# Altium schematic symbol library test.SchLib: 309 symbols (part 7 of 9)
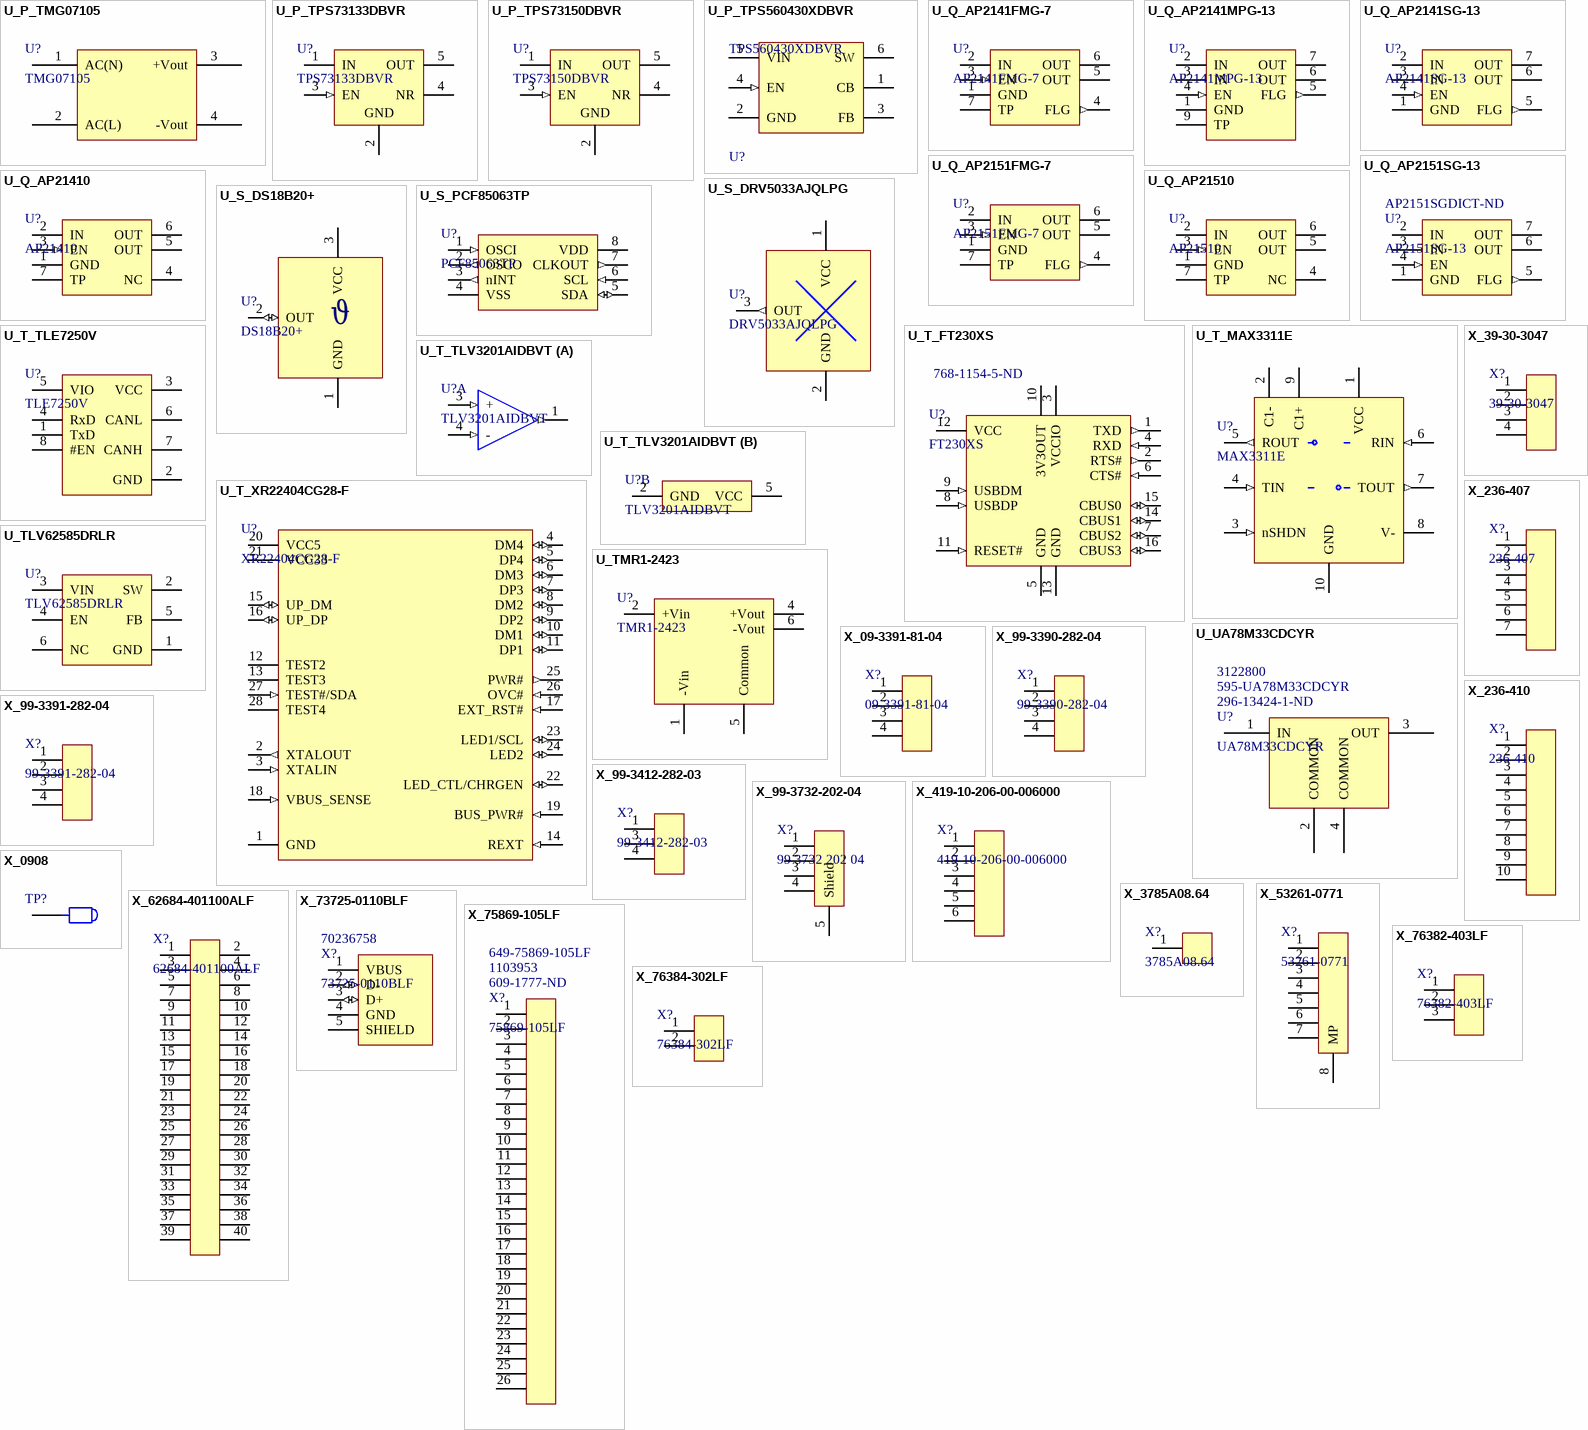
[diagram p14: symbols U_P_TMG07105 to X_76384-302LF]

## U_Q_AP2141SG-13
designator U?, comment AP2141SG-13
0.5A SINGLE CHANNEL CURRENT-LIMITED POWERSWITCH SOIC8; Manufacturer: Diodes; Number of Outputs: 1; Current Rating: 800mA; Max Supply Voltage: 5.5V; Min Supply Voltage: 2.7V; Interface: On/Off; Max Output Current: 500mA; On-State Resistance: 95mR; Fault Protection: Over Temperature,Reverse Current; Output Configuration: High Side; ComponentLink1URL: https://datasheet.ciiva.com/15108/getdatasheetpartid-661768-15108858.pdf; ComponentLink1Description: https://datasheet.ciiva.com/15108/getdatasheetpartid-661768-15108858.pdf; ComponentLink2URL: https://datasheet.ciiva.com/26882/ap2141fmg-7-26882490.pdf; ComponentLink2Description: https://datasheet.ciiva.com/26882/ap2141fmg-7-26882490.pdf; ComponentLink3URL: https://datasheet.ciiva.com/1962/ap2141-51-1962188.pdf; ComponentLink3Description: https://datasheet.ciiva.com/1962/ap2141-51-1962188.pdf; ComponentLink4URL: https://datasheet.ciiva.com/1962/ap2141-51-1962189.pdf; ComponentLink4Description: https://datasheet.ciiva.com/1962/ap2141-51-1962189.pdf; ComponentLink5URL: https://datasheet.ciiva.com/1962/ap2141-51-1962190.pdf; ComponentLink5Description: https://datasheet.ciiva.com/1962/ap2141-51-1962190.pdf; Supplier 1: Digi-Key; Supplier Part Number 1: AP2141SGDICT-ND; Manufacturer Part Number: AP2141SG-13; RoHS: Yes; Stock 1: 5779; Pricing 1: 1 = 0.70000, 10 = 0.61200, 100 = 0.46910, 500 = 0.37080, 1000 = 0.29664 (USD); Mount: Surface Mount; Case/Package: SOP; Number of Pins: 8; Weight: 0.030018oz; Min Operating Temperature: -40°C; Max Operating Temperature: 85°C; Package Quantity: 2500; Packaging: Tape and Reel; Voltage: 5.5V; Current: 500mA; Length: 5.3mm; Height: 1.5mm; Width: 4.1mm; Radiation Hardening: No; REACH SVHC: No SVHC; Lead Free: Lead Free; ComponentLink6URL: http://www.farnell.com/datasheets/608802.pdf?src-supplier=Farnell; ComponentLink6Description: http://www.farnell.com/datasheets/608802.pdf?src-supplier=Farnell; ComponentLink7URL: http://www.farnell.com/datasheets/608802.pdf?src-supplier=Element14; ComponentLink7Description: http://www.farnell.com/datasheets/608802.pdf?src-supplier=Element14; ComponentLink8URL: http://www.diodes.com/datasheets/AP2141_51.pdf?src-supplier=Avnet; ComponentLink8Description: http://www.diodes.com/datasheets/AP2141_51.pdf?src-supplier=Avnet; ComponentLink9URL: https://www.verical.com/server-webapp/html/getDatasheet?partID=670762&src-supplier=Verical; ComponentLink9Description: https://www.verical.com/server-webapp/html/getDatasheet?partID=670762&src-supplier=Verical; ComponentLink10URL: http://www.farnell.com/datasheets/2238439.pdf?src-supplier=Element14; ComponentLink10Description: http://www.farnell.com/datasheets/2238439.pdf?src-supplier=Element14; ComponentLink11URL: http://www.diodes.com/datasheets/AP2141_51.pdf?src-supplier=Future+Electronics; ComponentLink11Description: http://www.diodes.com/datasheets/AP2141_51.pdf?src-supplier=Future+Electronics; ComponentLink12URL: https://www.diodes.com/assets/Datasheets/AP2141-51.pdf?src-supplier=Digi-Key; ComponentLink12Description: https://www.diodes.com/assets/Datasheets/AP2141-51.pdf?src-supplier=Digi-Key
footprint SO8 (SOIC8, SO8, PG-DSO8-44, R-PDSO8-G8)
pins: 1 GND (power), 2 IN (power), 3 IN (power), 4 EN (in), 5 FLG (out), 6 OUT (power), 7 OUT (power)

## U_Q_AP2151FMG-7
designator U?, comment AP2151FMG-7
0.5A SINGLE CHANNEL CURRENT-LIMITED POWERSWITCH DFN EP T/R; Manufacturer: Diodes; Number of Outputs: 1; Max Supply Voltage: 5.5V; Min Supply Voltage: 2.7V; Interface: On/Off; Max Output Current: 500mA; On-State Resistance: 120mR; Fault Protection: Over Temperature,Reverse Current; Output Configuration: High Side; ComponentLink1URL: https://datasheet.ciiva.com/15108/getdatasheetpartid-661768-15108858.pdf; ComponentLink1Description: https://datasheet.ciiva.com/15108/getdatasheetpartid-661768-15108858.pdf; ComponentLink2URL: https://datasheet.ciiva.com/26882/ap2141fmg-7-26882490.pdf; ComponentLink2Description: https://datasheet.ciiva.com/26882/ap2141fmg-7-26882490.pdf; ComponentLink3URL: https://datasheet.ciiva.com/1962/ap2141-51-1962188.pdf; ComponentLink3Description: https://datasheet.ciiva.com/1962/ap2141-51-1962188.pdf; ComponentLink4URL: https://datasheet.ciiva.com/1962/ap2141-51-1962189.pdf; ComponentLink4Description: https://datasheet.ciiva.com/1962/ap2141-51-1962189.pdf; ComponentLink5URL: https://datasheet.ciiva.com/1962/ap2141-51-1962190.pdf; ComponentLink5Description: https://datasheet.ciiva.com/1962/ap2141-51-1962190.pdf; Supplier 1: Digi-Key; Supplier Part Number 1: AP2151FMG-7DIDKR-ND; Manufacturer Part Number: AP2151FMG-7; RoHS: Yes; Stock 1: 946; Pricing 1: 1 = 0.59000, 10 = 0.50200, 100 = 0.37490, 500 = 0.29458, 1000 = 0.22763 (USD); Mount: Surface Mount; Case/Package: SOT-26; Number of Pins: 6; Min Operating Temperature: -40°C; Max Operating Temperature: 85°C; Packaging: Tape and Reel; Package Quantity: 3000; Voltage: 5.5V; Current: 500mA; Length: 1.88mm; Height: 0.56mm; Width: 2.075mm; Radiation Hardening: No; Lead Free: Lead Free; ComponentLink6URL: https://www.verical.com/server-webapp/html/getDatasheet?partID=697404&src-supplier=Verical; ComponentLink6Description: https://www.verical.com/server-webapp/html/getDatasheet?partID=697404&src-supplier=Verical
footprint U-DFN2018-6
pins: 1 GND (power), 2 IN (power), 3 EN (in), 4 FLG (out), 5 OUT (power), 6 OUT (power), 7 TP (power)

## U_Q_AP2151SG-13
designator U?, comment AP2151SG-13  Supplier Part Number 1: AP2151SGDICT-ND
0.5A SINGLE CHANNEL CURRENT-LIMITED POWERSWITCH SOIC8; Manufacturer: Diodes; Manufacturer Part Number: AP2141FMG-7; Number of Outputs: 1; Current Rating: 800mA; Max Supply Voltage: 5.5V; Min Supply Voltage: 2.7V; Interface: On/Off; Max Output Current: 500mA; On-State Resistance: 115MR; Fault Protection: Over Temperature,Reverse Current; Output Configuration: High Side; ComponentLink1URL: https://datasheet.ciiva.com/15108/getdatasheetpartid-661768-15108858.pdf; ComponentLink1Description: https://datasheet.ciiva.com/15108/getdatasheetpartid-661768-15108858.pdf; ComponentLink2URL: https://datasheet.ciiva.com/26882/ap2141fmg-7-26882490.pdf; ComponentLink2Description: https://datasheet.ciiva.com/26882/ap2141fmg-7-26882490.pdf; ComponentLink3URL: https://datasheet.ciiva.com/1962/ap2141-51-1962188.pdf; ComponentLink3Description: https://datasheet.ciiva.com/1962/ap2141-51-1962188.pdf; ComponentLink4URL: https://datasheet.ciiva.com/1962/ap2141-51-1962189.pdf; ComponentLink4Description: https://datasheet.ciiva.com/1962/ap2141-51-1962189.pdf; ComponentLink5URL: https://datasheet.ciiva.com/1962/ap2141-51-1962190.pdf; ComponentLink5Description: https://datasheet.ciiva.com/1962/ap2141-51-1962190.pdf; RoHS: Yes; Stock 2: 2151; Pricing 2: 1 = 0.77000, 10 = 0.68000, 100 = 0.52120, 500 = 0.41200, 1000 = 0.32960 (USD); Mount: Surface Mount; Case/Package: SOP; Number of Pins: 8; Weight: 0.030018oz; Min Operating Temperature: -40°C; Max Operating Temperature: 85°C; Packaging: Tape and Reel; Package Quantity: 2500; Voltage: 5.5V; Current: 500mA; Length: 4.95mm; Height: 1.5mm; Width: 3.95mm; Radiation Hardening: No; Lead Free: Lead Free; ComponentLink6URL: https://www.verical.com/server-webapp/html/getDatasheet?partID=661773&src-supplier=Verical; ComponentLink6Description: https://www.verical.com/server-webapp/html/getDatasheet?partID=661773&src-supplier=Verical; ComponentLink7URL: http://www.diodes.com/datasheets/AP2141_51.pdf?src-supplier=Avnet+Europe; ComponentLink7Description: http://www.diodes.com/datasheets/AP2141_51.pdf?src-supplier=Avnet+Europe; ComponentLink8URL: http://datasheet.iiic.cc/diodes/AP2151SG-13.pdf?src-supplier=IIIC; ComponentLink8Description: http://datasheet.iiic.cc/diodes/AP2151SG-13.pdf?src-supplier=IIIC; Supplier 1: Digi-Key
footprint SO8 (SOIC8, SO8, PG-DSO8-44, R-PDSO8-G8)
pins: 1 GND (power), 2 IN (power), 3 IN (power), 4 EN (in), 5 FLG (out), 6 OUT (power), 7 OUT (power)

## U_Q_AP21410
designator U?, comment AP21410
Current Limit SW 1-IN 1-OUT 2.7V to 5.5V 0.2A 6-Pin UDFN T/R; Manufacturer: Diodes; Manufacturer Part Number: AP21410FM-7; Supplier 1: Digi-Key; Supplier Part Number 1: AP21410FM-7DICT-ND; ComponentLink1URL: http://www.mouser.com/ds/2/115/AP21410_21510-740863.pdf; ComponentLink1Description: http://www.mouser.com/ds/2/115/AP21410_21510-740863.pdf; ComponentLink2URL: http://www.diodes.com/_files/datasheets/AP21410_21510.pdf; ComponentLink2Description: http://www.diodes.com/_files/datasheets/AP21410_21510.pdf
footprint U-DFN2018-6
pins: 1 GND (power), 2 IN (power), 3 EN (in), 4 NC, 5 OUT (power), 6 OUT (power), 7 TP (power)

## U_Q_AP21510
designator U?, comment AP21510
IC USB PWR SWITCH 6UDFN; Manufacturer: Diodes; Manufacturer Part Number: AP21510FM-7; Number of Outputs: 1; Interface: On/Off; Max Output Current: 200mA; Fault Protection: Over Temperature,Reverse Current; Output Configuration: High Side; Supplier 1: Digi-Key; RoHS: Yes; Stock 1: 10640; Pricing 1: 1=0,41000, 10=0,35500, 100=0,24610, 500=0,19874, 1000=0,14669 (USD); Mount: Surface Mount; Contact Plating: Tin,Matte; Min Operating Temperature: -40°C; Max Operating Temperature: 85°C; Packaging: Cut Tape; Number of Inputs: 1; ComponentLink1URL: https://media.digikey.com/pdf/Data%20Sheets/Diodes%20PDFs/AP21410_AP21510_NPA.pdf?src-supplier=Digi-Key; ComponentLink1Description: https://media.digikey.com/pdf/Data%20Sheets/Diodes%20PDFs/AP21410_AP21510_NPA.pdf?src-supplier=Digi-Key; ComponentLink2URL: http://www.mouser.com/ds/2/115/AP21410_21510-740863.pdf?src-supplier=Mouser; ComponentLink2Description: http://www.mouser.com/ds/2/115/AP21410_21510-740863.pdf?src-supplier=Mouser; ComponentLink3URL: http://www.diodes.com/_files/datasheets/AP21410_21510.pdf?src-supplier=Avnet; ComponentLink3Description: http://www.diodes.com/_files/datasheets/AP21410_21510.pdf?src-supplier=Avnet; ComponentLink4URL: https://www.diodes.com/assets/Datasheets/AP21410_21510.pdf?src-supplier=Digi-Key; ComponentLink4Description: https://www.diodes.com/assets/Datasheets/AP21410_21510.pdf?src-supplier=Digi-Key; Supplier Part Number 1: AP21510FM-7DICT-ND
footprint U-DFN2018-6
pins: 1 GND (power), 2 IN (power), 3 EN (in), 4 NC, 5 OUT (power), 6 OUT (power), 7 TP (power)

## U_S_DRV5033AJQLPG
designator U?, comment DRV5033AJQLPG
TEXAS INSTRUMENTS         DRV5033AJQLPG            Hall Effect Sensor, Omnipolar, 30 mA, TO-226AA, 3 Pins, 2.5 V, 38 V; Supplier 1: Digi-Key; Supplier Part Number 1: 296-38520-ND; Manufacturer: Texas Instruments; Manufacturer Part Number: DRV5033AJQLPG; Case/Package: TO-226-3; ComponentLink1URL: http://components.arrow.com/part/dataview/72317363S1084610N9193; ComponentLink1Description: http://components.arrow.com/part/dataview/72317363S1084610N9193; ComponentLink2URL: http://www.ti.com/general/docs/lit/getliterature.tsp?genericPartNumber=DRV5033&&fileType=pdf; ComponentLink2Description: http://www.ti.com/general/docs/lit/getliterature.tsp?genericPartNumber=DRV5033&&fileType=pdf; ComponentLink3URL: http://www.ti.com/lit/ds/symlink/drv5023.pdf; ComponentLink3Description: http://www.ti.com/lit/ds/symlink/drv5023.pdf; ComponentLink4URL: http://www.farnell.com/datasheets/2026569.pdf; ComponentLink4Description: http://www.farnell.com/datasheets/2026569.pdf; ComponentLink5URL: http://www.farnell.com/datasheets/2019224.pdf; ComponentLink5Description: http://www.farnell.com/datasheets/2019224.pdf
footprint To-92 - Mirror
pins: 1 VCC, 2 GND, 3 OUT (out)

## U_S_DS18B20+
designator U?, comment DS18B20+
MAXIM INTEGRATED PRODUCTS         DS18B20+.             12bit,  0.5C 1 Wire Digital Thermometer with Programmable Resolution in TO-92-3 Package; Supplier 1: Digi-Key; Supplier Part Number 1: DS18B20+-ND; Manufacturer: Maxim; Manufacturer Part Number: DS18B20+; Case/Package: TO-92; ComponentLink1URL: https://datasheet.ciiva.com/14100/ds18b20-eng-tds-14100018.pdf; ComponentLink1Description: https://datasheet.ciiva.com/14100/ds18b20-eng-tds-14100018.pdf; ComponentLink2URL: https://datasheet.ciiva.com/23809/46379-23809287.pdf; ComponentLink2Description: https://datasheet.ciiva.com/23809/46379-23809287.pdf; ComponentLink3URL: https://datasheet.ciiva.com/19456/865936-19456316.pdf; ComponentLink3Description: https://datasheet.ciiva.com/19456/865936-19456316.pdf; ComponentLink4URL: https://datasheet.ciiva.com/26887/ds18b20-26887123.pdf; ComponentLink4Description: https://datasheet.ciiva.com/26887/ds18b20-26887123.pdf; ComponentLink5URL: https://datasheet.ciiva.com/46354/136-ds18b20-46354613.pdf; ComponentLink5Description: https://datasheet.ciiva.com/46354/136-ds18b20-46354613.pdf; ComponentLink6URL: https://datasheet.ciiva.com/16470/ds18b20-16470492.pdf; ComponentLink6Description: https://datasheet.ciiva.com/16470/ds18b20-16470492.pdf; ComponentLink7URL: https://datasheet.ciiva.com/2003/ds18b20-2003437.pdf; ComponentLink7Description: https://datasheet.ciiva.com/2003/ds18b20-2003437.pdf; ComponentLink8URL: https://datasheet.ciiva.com/3277/ds18b20-3277869.pdf; ComponentLink8Description: https://datasheet.ciiva.com/3277/ds18b20-3277869.pdf; ComponentLink9URL: https://datasheet.ciiva.com/5696/ds18s20-5696782.pdf; ComponentLink9Description: https://datasheet.ciiva.com/5696/ds18s20-5696782.pdf
footprint To-92
pins: 1 GND, 2 OUT (io), 3 VCC
text: ϑ

## U_S_PCF85063TP
designator U?, comment PCF85063TP
Real Time Clock Serial 8-Pin HWSON EP; Manufacturer: NXP Semiconductors; Manufacturer Part Number: PCF85063TP/1Z; Resolution: 12b; Operating Supply Current: 1.5mA; Output Type: Voltage,Digital; Min Supply Voltage: 3V; Max Supply Voltage: 5.5V; Number of Bits: 12; Output Current: 4mA; Nominal Supply Current: 1mA; Sensor Type: Temperature; ComponentLink1URL: https://datasheet.ciiva.com/24017/pcf85063tp-260518-24017188.pdf; ComponentLink1Description: https://datasheet.ciiva.com/24017/pcf85063tp-260518-24017188.pdf; ComponentLink2URL: https://datasheet.ciiva.com/29883/pcf85063tp-29883573.pdf; ComponentLink2Description: https://datasheet.ciiva.com/29883/pcf85063tp-29883573.pdf; Stock 2: 16564; Pricing 2: 1=2.78, 10=2.72 (USD); Mount: Through Hole,PCB; Case/Package: TO-92; Number of Pins: 3; Weight: 0.001lb; Min Operating Temperature: -55°C; Max Operating Temperature: 125°C; Packaging: Rail/Tube; Package Quantity: 10; Interface: Serial; Max Supply Voltage (DC): 5.5V; Min Supply Voltage (DC): 3V; Termination: SMD/SMT; Length: 4.95mm; Height: 4.95mm; Width: 3.94mm; Radiation Hardening: No; Lead Free: Lead Free; REACH SVHC: No SVHC; ComponentLink3URL: https://datasheet.ciiva.com/14100/ds18b20-eng-tds-14100018.pdf; ComponentLink3Description: https://datasheet.ciiva.com/14100/ds18b20-eng-tds-14100018.pdf; ComponentLink4URL: https://datasheet.ciiva.com/23809/46379-23809287.pdf; ComponentLink4Description: https://datasheet.ciiva.com/23809/46379-23809287.pdf; ComponentLink5URL: https://datasheet.ciiva.com/19456/865936-19456316.pdf; ComponentLink5Description: https://datasheet.ciiva.com/19456/865936-19456316.pdf; ComponentLink6URL: https://datasheet.ciiva.com/26887/ds18b20-26887123.pdf; ComponentLink6Description: https://datasheet.ciiva.com/26887/ds18b20-26887123.pdf; ComponentLink7URL: https://datasheet.ciiva.com/46354/136-ds18b20-46354613.pdf; ComponentLink7Description: https://datasheet.ciiva.com/46354/136-ds18b20-46354613.pdf; ComponentLink8URL: https://datasheet.ciiva.com/16470/ds18b20-16470492.pdf; ComponentLink8Description: https://datasheet.ciiva.com/16470/ds18b20-16470492.pdf; ComponentLink9URL: https://datasheet.ciiva.com/2003/ds18b20-2003437.pdf; ComponentLink9Description: https://datasheet.ciiva.com/2003/ds18b20-2003437.pdf; ComponentLink10URL: https://datasheet.ciiva.com/3277/ds18b20-3277869.pdf; ComponentLink10Description: https://datasheet.ciiva.com/3277/ds18b20-3277869.pdf; ComponentLink11URL: https://datasheet.ciiva.com/5696/ds18s20-5696782.pdf; ComponentLink11Description: https://datasheet.ciiva.com/5696/ds18s20-5696782.pdf; Supplier 1: Digi-Key; Supplier Part Number 1: 568-10236-1-ND
footprint HWSON8 (SON, 8-Leads, Body 2.00x3.00mm, Pitch 0.50mm, Thermal Pad 1.50x1.59mm, IPC Medium Density)
pins: 1 OSCI (in), 2 OSCO (out), 3 nINT (out), 4 VSS (power), 5 SDA (io), 6 SCL (in), 7 CLKOUT (out), 8 VDD (power)

## U_T_FT230XS
designator U?, comment FT230XS  Supplier Part Number 1: 768-1154-5-ND
USB to Basic UART Interface Chip, UHCI/OHCI/EHCI Compatible, USB 2.0 Compatible, -40 to +85 degC, 16-Pin SSOP, Pb-Free, Tube; Manufacturer: FTDI; Manufacturer Part Number: FT230XS-U; ComponentLink1Description: Manufacturer URL; ComponentLink1URL: http://www.ftdichip.com/; ComponentLink2Description: Datasheet; ComponentLink2URL: http://www.ftdichip.com/Support/Documents/DataSheets/ICs/DS_FT230X.pdf; ComponentLink3Description: FT230X Product Page; ComponentLink3URL: www.ftdichip.com/Products/ICs/FT230X.html; Supplier 1: Digi-Key; Case/Package: SSOP; ComponentLink4URL: https://datasheet.ciiva.com/16339/ds-ft230x-16339482.pdf; ComponentLink4Description: https://datasheet.ciiva.com/16339/ds-ft230x-16339482.pdf; ComponentLink5URL: https://datasheet.ciiva.com/6630/ds-ft230x-6630901.pdf; ComponentLink5Description: https://datasheet.ciiva.com/6630/ds-ft230x-6630901.pdf
footprint SSOP-16_N (SOP, 16-Leads, Body 4.9x3.9mm, Pitch 0.635mm, IPC Medium Density)
footprint SSOP-16_L (SOP, 16-Leads, Body 4.9x3.9mm, Pitch 0.635mm, IPC High Density)
footprint SSOP-16_M (SOP, 16-Leads, Body 4.9x3.9mm, Pitch 0.635mm, IPC Low Density)
pins: 1 TXD (out) "Transmit Asynchronous Data Output.", 2 RTS# (out) "Request to Send Control Output / Handshake Signal.", 3 VCCIO (power) "1V8 -3V3 supply for the IO cells.", 4 RXD (in) "Receiving Asynchronous Data Input.", 5 GND (power) "0V Ground input.", 6 CTS# (in) "Clear To Send Control Input / Handshake Signal.", 7 CBUS2 (io) "Configurable CBUS I/O Pin. Function of this pin is configured in the device MTP memory. The default configuration is TXLED#.", 8 USBDP (in) "USB Data Signal Plus.", 9 USBDM (in) "USB Data Signal Minus.", 10 3V3OUT (power) "3V3 output at 50mA. May be used to power VCCIO. When VCC is 3V3; pin 10 is an input pin and should be connected to pin 12.", 11 RESET# (in) "Reset input (active low).", 12 VCC (power) "5 V (or 3V3) supply to IC.", 13 GND (power) "0V Ground input.", 14 CBUS1 (io) "Configurable CBUS I/O Pin. Function of this pin is configured in the device MTP memory. The default configuration is RXLED#.", 15 CBUS0 (io) "Configurable CBUS I/O Pin. Function of this pin is configured in the device MTP memory. The default configuration is TXDEN.", 16 CBUS3 (io) "Configurable CBUS I/O Pin. Function of this pin is configured in the device MTP memory. The default configuration is SLEEP#."

## U_T_MAX3311E
designator U?, comment MAX3311E
IC TXRX RS232 460KBPS 10-UMAX; Manufacturer Part Number: MAX3311ECUB+; Manufacturer: Maxim; Supplier 1: Digi-Key; Supplier Part Number 1: MAX3311ECUB+-ND; ComponentLink1URL: https://datasheet.ciiva.com/3030/max3311e-max3313e-3030079.pdf; ComponentLink1Description: https://datasheet.ciiva.com/3030/max3311e-max3313e-3030079.pdf; ComponentLink2URL: https://datasheet.ciiva.com/1712/max3311e-max3313e-1712722.pdf; ComponentLink2Description: https://datasheet.ciiva.com/1712/max3311e-max3313e-1712722.pdf
footprint 10L uMAX (10L uMAX Maxim,)
pins: 1 VCC (power), 2 C1-, 3 nSHDN (in), 4 TIN (in), 5 ROUT (out), 6 RIN (in), 7 TOUT (out), 8 V-, 9 C1+, 10 GND (power)

## U_T_TLE7250V
designator U?, comment TLE7250V
High Speed CAN-Transceiver; Manufacturer: Infineon; Manufacturer Part Number: TLE7250VSJXUMA1; Data Rate: 1Mbps; Min Supply Voltage: 4.5V; Number of Transceivers: 1; Max Supply Voltage: 5.5V; Quiescent Current: 13A; Operating Supply Voltage: 3.3V; Simplex/Duplex: Half Duplex; Receiver Hysteresis: 100mV; Stock 1: 703; Pricing 1: 1=0.91, 10=0.816, 100=0.6361, 500=0.5255, 1000=0.4148 (USD); Mount: Surface Mount; Number of Pins: 8; Packaging: Tape and Reel; Lead Free: Lead Free; Halogen Free: Halogen Free; ComponentLink1URL: http://www.mouser.com/ds/2/196/Infineon-TLE7250V-DS-v01_00-EN-793317.pdf; ComponentLink1Description: http://www.mouser.com/ds/2/196/Infineon-TLE7250V-DS-v01_00-EN-793317.pdf; ComponentLink2URL: https://www.infineon.com/dgdl/Infineon-TLE7250V-DS-v01_00-EN.pdf?fileId=5546d46259d9a4bf015a3cf6417e5e59; ComponentLink2Description: https://www.infineon.com/dgdl/Infineon-TLE7250V-DS-v01_00-EN.pdf?fileId=5546d46259d9a4bf015a3cf6417e5e59; ComponentLink3URL: http://www.infineon.com/dgdl/Infineon-TLE7250V-DS-v01_00-EN.pdf?fileId=5546d4624fb7fef2014fe04af1fa5f63&ack=t; ComponentLink3Description: http://www.infineon.com/dgdl/Infineon-TLE7250V-DS-v01_00-EN.pdf?fileId=5546d4624fb7fef2014fe04af1fa5f63&ack=t; Supplier 1: Digi-Key; Supplier Part Number 1: TLE7250VSJXUMA1CT-ND
footprint PG-DSO-8-44 (infineon PG-DSO-8-44)
pins: 1 TxD, 2 GND, 3 VCC, 4 RxD, 5 VIO, 6 CANL, 7 CANH, 8 #EN

## U_T_TLV3201AIDBVT
designator U?, comment TLV3201AIDBVT
Comparator Single R-R I/P 5.5V 5-Pin SOT-23 T/R; Manufacturer: Texas Instruments; Min Supply Voltage: 2.7V; Number of Channels: 1; Common Mode Rejection Ratio: 70dB; Propagation Delay: 50ns; Nominal Supply Current: 50uA; Input Offset Voltage (Vos): 5mV; Input Bias Current: 5nA; Quiescent Current: 40uA; Response Time: 0.047us; Power Supply Rejection Ratio (PSRR): 85dB; Hysteresis: 1.2mV; Supplier 1: Digi-Key; Supplier Part Number 1: 296-30404-1-ND; Manufacturer Part Number: TLV3201AIDBVT; Stock 1: 7017; Pricing 1: 1=1.56, 10=1.398, 100=1.0897 (USD); Mount: Surface Mount; Case/Package: SOT-23; Number of Pins: 5; Contact Plating: Gold; Min Operating Temperature: -40°C; Max Operating Temperature: 125°C; Max Supply Voltage: 5.5V; Packaging: Tape and Reel; Package Quantity: 250; Number of Elements: 1; Max Supply Current: 40uA; Type: General Purpose; Max Input Current: 5nA; Length: 3.05mm; Height: 1.3mm; Width: 1.75mm; Radiation Hardening: No; Lead Free: Lead Free; REACH SVHC: No SVHC; ComponentLink1URL: https://datasheet.ciiva.com/23702/1636646-23702135.pdf; ComponentLink1Description: https://datasheet.ciiva.com/23702/1636646-23702135.pdf; ComponentLink2URL: https://datasheet.ciiva.com/26218/sbos561a-26218594.pdf; ComponentLink2Description: https://datasheet.ciiva.com/26218/sbos561a-26218594.pdf; ComponentLink3URL: https://datasheet.ciiva.com/46396/1882110-46396746.pdf; ComponentLink3Description: https://datasheet.ciiva.com/46396/1882110-46396746.pdf; ComponentLink4URL: https://datasheet.ciiva.com/8066/1636646-8066012.pdf; ComponentLink4Description: https://datasheet.ciiva.com/8066/1636646-8066012.pdf; ComponentLink5URL: https://datasheet.ciiva.com/2966/tlv3202-2966811.pdf; ComponentLink5Description: https://datasheet.ciiva.com/2966/tlv3202-2966811.pdf; ComponentLink6URL: https://datasheet.ciiva.com/2961/tlv3201-2961254.pdf; ComponentLink6Description: https://datasheet.ciiva.com/2961/tlv3201-2961254.pdf; ComponentLink7URL: https://datasheet.ciiva.com/2961/tlv3201-2961255.pdf; ComponentLink7Description: https://datasheet.ciiva.com/2961/tlv3201-2961255.pdf; ComponentLink8URL: https://datasheet.ciiva.com/2961/tlv3201-2961256.pdf; ComponentLink8Description: https://datasheet.ciiva.com/2961/tlv3201-2961256.pdf
footprint SOT-23-5
part A pins: 1 (out), 3 + (in), 4 - (in)
part B pins: 2 GND (power), 5 VCC (power)

## U_T_XR22404CG28-F
designator U?, comment XR22404CG28-F
USB Controller USB 2.0 USB Interface; Manufacturer: Exar; Manufacturer Part Number: XR22404CG28TR-F; Supplier 1: Mouser; Supplier Part Number 1: 701-XR22404CG28TR-F; ComponentLink1Description: Datasheet; ComponentLink1URL: https://www.exar.com/ds/xr22404.pdf
footprint SSOP-28 (SOP, 28-Leads, Body 9.91x3.90mm, Pitch 0.64mm, IPC Medium Density)
pins: 1 GND (power), 2 XTALOUT (out), 3 XTALIN (in), 4 DM4 (io), 5 DP4 (io), 6 DM3 (io), 7 DP3 (io), 8 DM2 (io), 9 DP2 (io), 10 DM1 (io), 11 DP1 (io), 12 TEST2, 13 TEST3, 14 REXT (in), 15 UP_DM (io), 16 UP_DP (io), 17 EXT_RST# (in), 18 VBUS_SENSE (in), 19 BUS_PWR# (in), 20 VCC5 (power), 21 VCC33 (power), 22 LED_CTL/CHRGEN (io), 23 LED1/SCL (io), 24 LED2 (io), 25 PWR# (out), 26 OVC# (in), 27 TEST#/SDA (in), 28 TEST4

## U_TLV62585DRLR
designator U?, comment TLV62585DRLR
2.5V-5.5V input, 3-A high efficiency step-down converter in 2x2 QFN or SOT563 package 6-SOT-5X3 -40 to 125; Manufacturer: Texas Instruments; Output Type: Adjustable; Output Configuration: Positive; Number of Outputs: 1; Min Input Voltage: 2.5V; Max Input Voltage: 5.5V; Min Output Voltage: 600mV; Output Current: 3A; Switching Frequency: 1.5MHz; Synchronous Rectifier: Yes; Supplier 1: Mouser; Supplier Part Number 1: 595-TLV62585DRLR; Manufacturer Part Number: TLV62585DRLR; RoHS: No; Category: Voltage Regulators - Switching; Stock: 1039; Pricing 1: 1=0.60000, 10=0.49700, 100=0.37600, 250=0.32000, 500=0.30400, 1000=0.23200 (USD); Mount: Surface Mount; Case/Package: SOT-563; Min Operating Temperature: -40°C; Max Operating Temperature: 125°C; Features: UVLO; Packaging: Tape and Reel; Max Output Voltage: 5.5V; ComponentLink1URL: http://www.ti.com/lit/ds/symlink/tlv62585.pdf?src-supplier=Digi-Key; ComponentLink1Description: http://www.ti.com/lit/ds/symlink/tlv62585.pdf?src-supplier=Digi-Key
footprint SOT563 (SOTFL, 6-Leads, Body 1.60x1.60mm, Pitch 0.50mm, IPC Medium Density)
pins: 1 GND, 2 SW, 3 VIN, 4 EN, 5 FB, 6 NC

## U_TMR1-2423
designator U?, comment TMR1-2423
DC/DC converter 18. . .36 VDC 15 VDC 1 W, TMR 1-2423, Traco Power; Max Input Voltage: 36V; Min Input Voltage: 18V; Number of Outputs: 2; Efficiency: 78%; Nominal Input Voltage: 24V; Output Voltage: 15V; Output Current: 33mA; Max Output Power: 1W; Voltage - Output 2: -15V; Isolation Voltage: 1.5kV; Supplier 1: Digi-Key; Supplier Part Number 1: 1951-2594-ND; Manufacturer: Traco Power; Manufacturer Part Number: TMR1-2423; Stock 1: 66; Pricing 1: 1=10.40000, 10=9.76600, 25=9.61600, 50=9.31560, 100=8.41400, 250=8.26376, 500=8.11350 (USD); RoHS: Yes; Mount: Through Hole; Case/Package: SIP; Min Operating Temperature: -40°C; Max Operating Temperature: 85°C; Min Input Voltage (DC): 18V; Voltage - Output 1: 15V; Current - Output 1: 33mA; Current - Output 2: 33mA; Max Input Voltage (DC): 36V; Length: 17mm; Height: 11mm; Width: 7.62mm; Depth: 17mm; REACH SVHC: No SVHC; ComponentLink1URL: https://datasheet.ciiva.com/30487/0900766b812106cb-30487595.pdf?src-supplier=RSComponents; ComponentLink1Description: https://datasheet.ciiva.com/30487/0900766b812106cb-30487595.pdf?src-supplier=RSComponents; ComponentLink2URL: https://datasheet.ciiva.com/26302/tmr1-eng-tds-26302603.pdf?src-supplier=Distrelec; ComponentLink2Description: https://datasheet.ciiva.com/26302/tmr1-eng-tds-26302603.pdf?src-supplier=Distrelec; ComponentLink3URL: https://datasheet.ciiva.com/46416/1810437-46416792.pdf?src-supplier=Element14; ComponentLink3Description: https://datasheet.ciiva.com/46416/1810437-46416792.pdf?src-supplier=Element14
footprint TMR1-2423
pins: 1 -Vin (power), 2 +Vin (power), 4 +Vout (power), 5 Common (power), 6 -Vout (power)

## U_UA78M33CDCYR
designator U?, comment UA78M33CDCYR  Supplier Part Number 1: 296-13424-1-ND  Supplier Part Number 2: 595-UA78M33CDCYR  Supplier Part Number 3: 3122800
Standard Regulator Pos 3.3V 0.5A 4-Pin(3+Tab) SOT-223 T/R; Manufacturer: Texas Instruments; Power Supply Rejection Ratio (PSRR): 80dB; Output Type: Fixed; Dropout Voltage: 2V; Number of Outputs: 1; Output Current: 500mA; Min Input Voltage: 5.3V; Max Input Voltage: 25V; Polarity: Positive; Quiescent Current: 4.5mA; Manufacturer Part Number: UA78M33CDCYR; RoHS: Yes; Category: Voltage Regulators - Linear; Stock 1: 599; Pricing 1: 1=0.58000, 10=0.51200, 25=0.48040, 100=0.36430, 250=0.31000, 500=0.29450, 1000=0.22475 (USD); Mount: Surface Mount; Case/Package: SOT-223-4; Number of Pins: 4; Weight: 0.006632oz; Contact Plating: Tin,Matte; Min Operating Temperature: -40°C; Max Operating Temperature: 125°C; Output Voltage: 3.3V; Packaging: Tape and Reel; Package Quantity: 1; Max Output Current: 500mA; Number of Regulators: 1; Nominal Output Voltage: 3.3V; Radiation Hardening: No; Lead Free: Lead Free; REACH SVHC: No SVHC; ComponentLink1URL: https://datasheet.ciiva.com/46395/1882046-46395062.pdf?src-supplier=Element14; ComponentLink1Description: https://datasheet.ciiva.com/46395/1882046-46395062.pdf?src-supplier=Element14; ComponentLink2URL: https://datasheet.ciiva.com/7992/1882046-7992586.pdf?src-supplier=Element14; ComponentLink2Description: https://datasheet.ciiva.com/7992/1882046-7992586.pdf?src-supplier=Element14; ComponentLink3URL: https://datasheet.ciiva.com/2042/ua78m05-2042171.pdf?src-supplier=Digi-Key; ComponentLink3Description: https://datasheet.ciiva.com/2042/ua78m05-2042171.pdf?src-supplier=Digi-Key; ComponentLink4URL: https://datasheet.ciiva.com/3224/ua78m05-3224619.pdf?src-supplier=Avnet; ComponentLink4Description: https://datasheet.ciiva.com/3224/ua78m05-3224619.pdf?src-supplier=Avnet; ComponentLink5URL: https://datasheet.ciiva.com/2042/ua78m05-2042172.pdf?src-supplier=Digi-Key; ComponentLink5Description: https://datasheet.ciiva.com/2042/ua78m05-2042172.pdf?src-supplier=Digi-Key; ComponentLink6URL: https://datasheet.ciiva.com/26170/ua78m12-26170716.pdf?src-supplier=Avnet+Europe; ComponentLink6Description: https://datasheet.ciiva.com/26170/ua78m12-26170716.pdf?src-supplier=Avnet+Europe; ComponentLink7URL: https://datasheet.ciiva.com/2042/ua78m05-2042173.pdf?src-supplier=Digi-Key; ComponentLink7Description: https://datasheet.ciiva.com/2042/ua78m05-2042173.pdf?src-supplier=Digi-Key; ComponentLink8URL: https://datasheet.ciiva.com/41463/001015184-da-01-en-ic-reg-3-3v-u-ua78m33cdcyr-sot-223-4-tid-41463029.pdf?src-supplier=Conrad; ComponentLink8Description: https://datasheet.ciiva.com/41463/001015184-da-01-en-ic-reg-3-3v-u-ua78m33cdcyr-sot-223-4-tid-41463029.pdf?src-supplier=Conrad; Supplier 1: Digi-Key; Supplier 2: Mouser; Supplier 3: Farnell
footprint SOT223 (SOT223, 4-Leads, Body 6.50x7.00mm (avg), Pitch 2.30mm, IPC Medium Density)
pins: 1 IN, 2 COMMON, 3 OUT, 4 COMMON

## X_09-3391-81-04
designator X?, comment 09-3391-81-04
Binder, 4 Pole Panel Mount Connector Socket, Male Contacts; Manufacturer: Binder; Manufacturer Part Number: 09-3391-81-04; ComponentLink1URL: https://datasheet.ciiva.com/11734/0900766b80e64efb-11734654.pdf; ComponentLink1Description: https://datasheet.ciiva.com/11734/0900766b80e64efb-11734654.pdf; ComponentLink2URL: https://datasheet.ciiva.com/14108/xqdata-allg-d-e-14108329.pdf; ComponentLink2Description: https://datasheet.ciiva.com/14108/xqdata-allg-d-e-14108329.pdf; Supplier 1: Distrelec; Supplier 2: Farnell; Supplier Part Number 1: 144-18-076; Supplier Part Number 2: 2949955
footprint 09-3391-81-04
pins: 1, 2, 3, 4

## X_39-30-3047
designator X?, comment 39-30-3047
CONNECTOR, HEADER, 4 POSITION, 4.2MM; Product Range:Mini-Fit Jr. 5569 Series; Pitch Spacing:4.2mm; Contact Termination Type:Through Hole; No. of Contacts:4; No. of Rows:1; Connector Mounting:PCB Mount; Gender:Header ;RoHS Compliant: Yes; Manufacturer: Molex; Number of Terminals/Pins: 4; Number of Ports: 1; Max Voltage Rating (AC): 600V; Current Rating: 13A; Contact Resistance: 10mR; Gender: Male; Insulation Resistance: 1GR; Wire Gauge (Max): 16AWG; Wire Gauge (Min): 20AWG; Glow Wire Compliant: Non-compliant; Supplier 1: Digi-Key; Manufacturer Part Number: 39-30-3047; RoHS: Yes; Category: Headers and Wire Housings; Stock 1: 5369; Pricing 1: 1=1.89000, 10=1.61400, 100=1.33290, 1000=1.05232, 5000=0.93306, 10000=0.91201 (USD); Mount: Through Hole; Housing Material: Nylon; Housing Color: Natural; Contact Plating: Gold,Copper,Tin,Bright; Contact Material: Brass,Gold; Material: Brass; Min Operating Temperature: -40°C; Max Operating Temperature: 105°C; Orientation: Right Angle; Number of Circuits: 4; Number of Positions: 4; Termination: Solder; Number of Contacts: 4; Contact Gender: Male; Package Quantity: 600; Number of Rows: 1; Packaging: Bulk; Voltage Rating: 600V; Voltage Rating (DC): 600V; Length: 5.8mm; Height: 12.8mm; Pitch: 4.2mm; Depth: 13.9mm; Radiation Hardening: No; Flammability Rating: UL94 V-2; REACH SVHC: Unknown; ELV: Compliant; Halogen Free: Low Halogen; Lead Free: Lead Free; ComponentLink1URL: https://datasheet.ciiva.com/5154/0039303047-pcb-headers-160027-5154148.pdf?src-supplier=Mouser; ComponentLink1Description: https://datasheet.ciiva.com/5154/0039303047-pcb-headers-160027-5154148.pdf?src-supplier=Mouser; ComponentLink2URL: https://datasheet.ciiva.com/11753/0900766b80d5ee5f-11753050.pdf?src-supplier=RSComponents; ComponentLink2Description: https://datasheet.ciiva.com/11753/0900766b80d5ee5f-11753050.pdf?src-supplier=RSComponents; ComponentLink3URL: https://datasheet.ciiva.com/16653/0039303047-pcb-headers-16653652.pdf?src-supplier=Avnet+Europe; ComponentLink3Description: https://datasheet.ciiva.com/16653/0039303047-pcb-headers-16653652.pdf?src-supplier=Avnet+Europe; ComponentLink4URL: https://datasheet.ciiva.com/19461/882509-19461628.pdf?src-supplier=Jameco; ComponentLink4Description: https://datasheet.ciiva.com/19461/882509-19461628.pdf?src-supplier=Jameco; ComponentLink5URL: https://datasheet.ciiva.com/30219/78280039303047-pcb-headers-30219950.pdf?src-supplier=Onlinecomponents.com; ComponentLink5Description: https://datasheet.ciiva.com/30219/78280039303047-pcb-headers-30219950.pdf?src-supplier=Onlinecomponents.com; ComponentLink6URL: https://datasheet.ciiva.com/3933/67450039303047-pcb-headers-3933010.pdf?src-supplier=Arrow+Electronics; ComponentLink6Description: https://datasheet.ciiva.com/3933/67450039303047-pcb-headers-3933010.pdf?src-supplier=Arrow+Electronics; Supplier 2: Farnell; Supplier 3: Mouser; Supplier Part Number 1: WM23936-ND; Supplier Part Number 2: 2381276; Supplier Part Number 3: 538-39-30-3047
footprint 39-30-3047
pins: 1, 2, 3, 4

## X_99-3390-282-04
designator X?, comment 99-3390-282-04
Binder, 4 Pole Right Angle Through Hole Connector Plug, Female Contacts; Gender: Male; Current Rating: 4A; Voltage Rating: 30V; Number of Contacts: 4; Ratings: IP67; Manufacturer: Binder; Manufacturer Part Number: 99-3390-282-04; Stock 1: 30; Pricing 1: 1 = 12.60000, 10 = 11.60000, 50 = 11.00000 (CHF); RoHS: Yes; Mount: Through Hole; Contact Material: Bronze; Contact Plating: Gold; Housing Material: PBT; Min Operating Temperature: -25°C; Max Operating Temperature: 85°C; Contact Gender: Female; Termination: Solder; Orientation: Right Angle; ComponentLink1URL: https://datasheet.ciiva.com/11737/0900766b80e64efb-11737700.pdf?src-supplier=RSComponents; ComponentLink1Description: https://datasheet.ciiva.com/11737/0900766b80e64efb-11737700.pdf?src-supplier=RSComponents; ComponentLink2URL: https://datasheet.ciiva.com/14108/xr768-data-d-e-14108312.pdf?src-supplier=Distrelec; ComponentLink2Description: https://datasheet.ciiva.com/14108/xr768-data-d-e-14108312.pdf?src-supplier=Distrelec; Supplier 1: Farnell; Supplier Part Number 1: 2950027
footprint Binder 99 3390 282 04
pins: 1, 2, 3, 4

## X_99-3391-282-04
designator X?, comment 99-3391-282-04
Binder, 4 Pole Right Angle Through Hole Connector Socket, Male Contacts; Current Rating: 4A; Voltage Rating: 30V; Gender: Female; Number of Contacts: 4; Ratings: IP67; Supplier 1: Farnell; Supplier Part Number 1: 2950028; Manufacturer: Binder; Manufacturer Part Number: 99-3391-282-04; Stock 1: 12; Pricing 1: 1=9.53000, 5=9.26000, 10=9.07000, 25=8.86000, 50=8.39000, 100=8.22000 (CHF); RoHS: Yes; Mount: Through Hole; Contact Material: Brass; Contact Plating: Gold; Housing Material: PBT; Min Operating Temperature: -25°C; Max Operating Temperature: 85°C; Contact Gender: Male; Termination: Solder; Orientation: Right Angle; ComponentLink1URL: https://datasheet.ciiva.com/11738/0900766b80e64efb-11738051.pdf?src-supplier=RSComponents; ComponentLink1Description: https://datasheet.ciiva.com/11738/0900766b80e64efb-11738051.pdf?src-supplier=RSComponents; ComponentLink2URL: https://datasheet.ciiva.com/14108/xqdata-allg-d-e-14108343.pdf?src-supplier=Distrelec; ComponentLink2Description: https://datasheet.ciiva.com/14108/xqdata-allg-d-e-14108343.pdf?src-supplier=Distrelec
footprint Binder 99 3391 282 04
pins: 1, 2, 3, 4

## X_99-3412-282-03
designator X?, comment 99-3412-282-03
Binder, 3 Pole Right Angle Through Hole Connector Plug, Female Contacts; Gender: Male; Current Rating: 4A; Voltage Rating: 60V; Number of Contacts: 3; Ratings: IP67; Supplier 1: Distrelec; Supplier Part Number 1: 144-75-364; Manufacturer: Binder; Manufacturer Part Number: 99-3412-282-03; Stock 1: 0; RoHS: Yes; Mount: Through Hole; Contact Material: Bronze; Contact Plating: Gold; Housing Material: PBT; Min Operating Temperature: -25°C; Max Operating Temperature: 85°C; Contact Gender: Female; Termination: Solder; Orientation: Right Angle; ComponentLink1URL: https://datasheet.ciiva.com/11737/0900766b80e64efb-11737701.pdf?src-supplier=RSComponents; ComponentLink1Description: https://datasheet.ciiva.com/11737/0900766b80e64efb-11737701.pdf?src-supplier=RSComponents; ComponentLink2URL: https://datasheet.ciiva.com/14108/xqdata-allg-d-e-14108311.pdf?src-supplier=Distrelec; ComponentLink2Description: https://datasheet.ciiva.com/14108/xqdata-allg-d-e-14108311.pdf?src-supplier=Distrelec
footprint Binder 99 3412 282 03
pins: 1, 3, 4

## X_99-3732-202-04
designator X?, comment 99 3732 202 04
M12-D Flanschdose, Polzahl: 4, nicht geschirmt, tauchlöten, IP67, UL; Manufacturer: Binder; Manufacturer Part Number: 99-3732-202-04; Supplier 1: Farnell; Stock 1: 10; Pricing 1: 1=11,77000, 5=11,37000, 10=11,09000, 25=10,80000, 50=10,32000, 75=10,04000 (CHF); RoHS: No; ComponentLink1URL: https://datasheet.ciiva.com/43506/99-3732-202-04-43506183.pdf?src-supplier=Onlinecomponents.com; ComponentLink1Description: https://datasheet.ciiva.com/43506/99-3732-202-04-43506183.pdf?src-supplier=Onlinecomponents.com; Supplier Part Number 1: 2950036
footprint Binder 99 3732 202 04
pins: 1, 2, 3, 4, 5 Shield

## X_236-407
designator X?, comment 236-407
Spring-loaded terminal 2.50 mm² Number of pins 7 WAGO; Supplier 1: Future Electronics; Manufacturer: WAGO; Manufacturer Part Number: 236-407; RoHS: Yes; Category: Connectors; Number of Pins: 7; Color: Grey; Contact Material: Copper,Tin; Number of Rows: 1; Length: 14mm; Width: 37.3mm; Height: 17mm; Supplier Part Number 1: 236-407
footprint 236-407
pins: 1, 2, 3, 4, 5, 6, 7

## X_236-410
designator X?, comment 236-410
Conn Terminal Block 10 POS 5mm/5.08mm Solder Thru-Hole 24A Box; Manufacturer: WAGO; Number of Positions: 10; Supplier 1: Future Electronics; Manufacturer Part Number: 236-410; RoHS: Yes; Category: Terminal Blocks; Stock 1: 170; Pricing 1: 1=3.67000, 20=3.28000, 50=3.18000, 150=3.05000, 400=2.94000 (USD); Number of Pins: 2; Contact Plating: Copper,Tin; Color: Grey; Contact Material: Stainless Steel; Termination: Cage Clamp; Lead Free: Lead Free; Supplier Part Number 1: 5010915
footprint 236-410
pins: 1, 2, 3, 4, 5, 6, 7, 8, 9, 10

## X_419-10-206-00-006000
designator X?, comment 419-10-206-00-006000
6 Position Spring Mating Target Connector Through Hole; Manufacturer: Mill-Max; Supplier 1: Digi-Key; Supplier Part Number 1: ED1376-ND; Manufacturer Part Number: 419-10-206-00-006000; ComponentLink1URL: https://www.mill-max.com/assets/pdfs/021.2.PDF; ComponentLink1Description: https://www.mill-max.com/assets/pdfs/021.2.PDF
footprint 419-10-206-00-006000_EDGE
pins: 1, 2, 3, 4, 5, 6

## X_0908
designator TP?
Contact pin for testpoints; Manufacturer: Mill-Max; Manufacturer Part Number: 0908-9-15-20-75-14-11-0; Plating: Gold; Current Rating: 2A; RoHS: Yes; Mount: Through Hole; Contact Material: Brass; Material: Copper Alloy; Packaging: Bulk; Package Quantity: 500; Length: 0.43inch; Height: 0.43inch; REACH SVHC: No SVHC; Lead Free: Contains Lead; ComponentLink1URL: https://datasheet.ciiva.com/5160/0908-9-15-20-75-14-11-0-25951-5160756.pdf?src-supplier=Mouser; ComponentLink1Description: https://datasheet.ciiva.com/5160/0908-9-15-20-75-14-11-0-25951-5160756.pdf?src-supplier=Mouser; ComponentLink2URL: https://datasheet.ciiva.com/1351/1734701-1351212.pdf?src-supplier=Element14; ComponentLink2Description: https://datasheet.ciiva.com/1351/1734701-1351212.pdf?src-supplier=Element14; Supplier 1: Farnell; Supplier Part Number 1: 2751180
footprint Mill-Max 0908
pins: 1

## X_3785A08.64
designator X?, comment 3785A08.64
Lötfahne Messing, verzinnt; Manufacturer: Vogt; Supplier 1: Distrelec; Stock 1: 7; Pricing 1: 1=5,40000, 5=5,10000, 10=4,75000 (CHF); RoHS: No; Supplier Part Number 1: 300-73-096; Manufacturer Part Number: 3785A08.64
footprint 3785A08.64
pins: 1

## X_53261-0771
designator X?, comment 53261-0771
1.25mm Pitch PicoBlade™ Header, Surface Mount, Right Angle, 7 Circuits; Manufacturer: Molex; Body Plating: Tin; Number of Contacts: 7; Contact Resistance: 20mR; Connector Type: Blade Pin; Current Rating: 1A; Voltage Rating: 125V; Insulation Resistance: 100MR; Supplier 1: Digi-Key; Manufacturer Part Number: 53261-0771; RoHS: Yes; Category: Headers and Wire Housings; Stock 1: 44133; Pricing 1: 1=0.79000, 10=0.66800, 100=0.51980 (USD); Mount: Surface Mount; Contact Plating: Tin; Contact Material: Bronze,Tin,Brass; Color: Natural; Housing Color: Natural; Housing Material: Nylon; Min Operating Temperature: -40°C; Max Operating Temperature: 85°C; Termination: Solder; Number of Rows: 1; Orientation: Right Angle; Packaging: Tape and Reel; Number of Positions: 7; Series: PicoBlade; Contact Type: Blade Pin; Contact Gender: Male; Voltage Rating (AC): 125V; Working Voltage: 125V; Length: 13.9mm; Pitch: 1.25mm; Lead Pitch: 1.25mm; Depth: 5.2mm; Radiation Hardening: No; Flammability Rating: UL94 V-0; RoHS Compliant: Yes; REACH SVHC: Unknown; ComponentLink1URL: https://datasheet.ciiva.com/392/532610371-sd-392113.pdf?src-supplier=Digi-Key; ComponentLink1Description: https://datasheet.ciiva.com/392/532610371-sd-392113.pdf?src-supplier=Digi-Key; ComponentLink2URL: https://datasheet.ciiva.com/22705/1841146-22705733.pdf?src-supplier=Element14; ComponentLink2Description: https://datasheet.ciiva.com/22705/1841146-22705733.pdf?src-supplier=Element14; ComponentLink3URL: https://datasheet.ciiva.com/27054/1932571-27054998.pdf?src-supplier=Jameco; ComponentLink3Description: https://datasheet.ciiva.com/27054/1932571-27054998.pdf?src-supplier=Jameco; ComponentLink4URL: https://datasheet.ciiva.com/3117/0532610771-pcb-headers-3117611.pdf?src-supplier=Avnet; ComponentLink4Description: https://datasheet.ciiva.com/3117/0532610771-pcb-headers-3117611.pdf?src-supplier=Avnet; ComponentLink5URL: https://datasheet.ciiva.com/11747/0900766b8078fc7d-11747893.pdf?src-supplier=RSComponents; ComponentLink5Description: https://datasheet.ciiva.com/11747/0900766b8078fc7d-11747893.pdf?src-supplier=RSComponents; ComponentLink6URL: https://datasheet.ciiva.com/392/532610771-sd-392145.pdf?src-supplier=Digi-Key; ComponentLink6Description: https://datasheet.ciiva.com/392/532610771-sd-392145.pdf?src-supplier=Digi-Key; ComponentLink7URL: https://datasheet.ciiva.com/392/532610771-sd-392146.pdf?src-supplier=Digi-Key; ComponentLink7Description: https://datasheet.ciiva.com/392/532610771-sd-392146.pdf?src-supplier=Digi-Key; ComponentLink8URL: https://datasheet.ciiva.com/14488/1768013-14488442.pdf?src-supplier=Farnell; ComponentLink8Description: https://datasheet.ciiva.com/14488/1768013-14488442.pdf?src-supplier=Farnell; ComponentLink9URL: https://datasheet.ciiva.com/46448/1768013-46448444.pdf?src-supplier=Element14; ComponentLink9Description: https://datasheet.ciiva.com/46448/1768013-46448444.pdf?src-supplier=Element14; ComponentLink10URL: https://datasheet.ciiva.com/10087/0532610771-pcb-headers-10087724.pdf?src-supplier=Avnet; ComponentLink10Description: https://datasheet.ciiva.com/10087/0532610771-pcb-headers-10087724.pdf?src-supplier=Avnet; Supplier 2: Mouser; Stock 2: 26163; Pricing 2: 1=0.79000, 10=0.66000, 50=0.66000, 100=0.52000, 1000=0.40000, 10000=0.30800 (USD); Supplier 3: Farnell; Stock 3: 1323; Pricing 3: 1=0.62000, 25=0.51800, 75=0.51200, 200=0.50500, 500=0.49500 (GBP); Supplier Part Number 1: WM7625CT-ND; Supplier Part Number 2: 538-53261-0771; Supplier Part Number 3: 1125361
footprint 532610771 (1.25mm Pitch, PicoBlade PCB Header, Single Row, Right-Angle, Surface Mount, Tin (Sn) Plating, Friction Lock, 7 Circuits)
pins: 1, 2, 3, 4, 5, 6, 7, 8 MP

## X_62684-401100ALF
designator X?, comment 62684-401100ALF
40 Position FPC Connector Contacts, Bottom 0.020" (0.50mm) Surface Mount, Right Angle, Amphenol 62684-401100ALF, TE  4-1734592-0; Manufacturer: Amphenol FCI; Supplier 1: Digi-Key; Supplier Part Number 1: 609-1195-1-ND; Manufacturer Part Number: 62684-401100ALF; ComponentLink1URL: https://datasheet.ciiva.com/25631/0900766b8118e51f-25631168.pdf; ComponentLink1Description: https://datasheet.ciiva.com/25631/0900766b8118e51f-25631168.pdf; ComponentLink2URL: https://datasheet.ciiva.com/3112/62684-3112007.pdf; ComponentLink2Description: https://datasheet.ciiva.com/3112/62684-3112007.pdf; ComponentLink3URL: https://datasheet.ciiva.com/670/62684-670200.pdf; ComponentLink3Description: https://datasheet.ciiva.com/670/62684-670200.pdf; ComponentLink4URL: https://datasheet.ciiva.com/670/62684-670201.pdf; ComponentLink4Description: https://datasheet.ciiva.com/670/62684-670201.pdf; ComponentLink5URL: https://datasheet.ciiva.com/670/62684-670202.pdf; ComponentLink5Description: https://datasheet.ciiva.com/670/62684-670202.pdf; ComponentLink6URL: https://datasheet.ciiva.com/16659/62684-16659882.pdf; ComponentLink6Description: https://datasheet.ciiva.com/16659/62684-16659882.pdf; ComponentLink7URL: https://datasheet.ciiva.com/16709/70236840-16709916.pdf; ComponentLink7Description: https://datasheet.ciiva.com/16709/70236840-16709916.pdf; ComponentLink8URL: https://datasheet.ciiva.com/3112/62684-3112397.pdf; ComponentLink8Description: https://datasheet.ciiva.com/3112/62684-3112397.pdf; ComponentLink9URL: https://datasheet.ciiva.com/5772/62684-5772782.pdf; ComponentLink9Description: https://datasheet.ciiva.com/5772/62684-5772782.pdf; Supplier 2: Digi-Key; Supplier Part Number 2: A100226CT-ND; Manufacturer 2: TE CONNECTIVITY; Stock 2: 2337; ComponentLink10URL: https://datasheet.ciiva.com/16317/4-1734592-0-16317310.pdf; ComponentLink10Description: https://datasheet.ciiva.com/16317/4-1734592-0-16317310.pdf; ComponentLink11URL: https://datasheet.ciiva.com/46396/1795029-46396773.pdf; ComponentLink11Description: https://datasheet.ciiva.com/46396/1795029-46396773.pdf; ComponentLink12URL: https://datasheet.ciiva.com/10365/eng-ds-1-1773440-6-0506-10365927.pdf; ComponentLink12Description: https://datasheet.ciiva.com/10365/eng-ds-1-1773440-6-0506-10365927.pdf; ComponentLink13URL: https://datasheet.ciiva.com/669/eng-cd-1734592-c-c-1734592-669272.pdf; ComponentLink13Description: https://datasheet.ciiva.com/669/eng-cd-1734592-c-c-1734592-669272.pdf; ComponentLink14URL: https://datasheet.ciiva.com/669/eng-cd-1734592-c-c-1734592-669273.pdf; ComponentLink14Description: https://datasheet.ciiva.com/669/eng-cd-1734592-c-c-1734592-669273.pdf; ComponentLink15URL: https://datasheet.ciiva.com/669/eng-cd-1734592-c-c-1734592-669274.pdf; ComponentLink15Description: https://datasheet.ciiva.com/669/eng-cd-1734592-c-c-1734592-669274.pdf; ComponentLink16URL: https://datasheet.ciiva.com/16660/eng-ds-1-1773440-6-0506-16660381.pdf; ComponentLink16Description: https://datasheet.ciiva.com/16660/eng-ds-1-1773440-6-0506-16660381.pdf; ComponentLink17URL: https://datasheet.ciiva.com/1437/586796-1437950.pdf; ComponentLink17Description: https://datasheet.ciiva.com/1437/586796-1437950.pdf; Manufacturer Part Number 2: 4-1734592-0
footprint 4-1734592-0
pins: 1, 2, 3, 4, 5, 6, 7, 8, 9, 10, 11, 12, 13, 14, 15, 16, 17, 18, 19, 20, 21, 22, 23, 24, 25, 26, 27, 28, 29, 30, 31, 32, 33, 34, 35, 36, 37, 38, 39, 40

## X_73725-0110BLF
designator X?, comment 73725-0110BLF  Supplier Part Number 1: 70236758
CONN RCPT USB2.0 TYPEA 4POS R/A; Manufacturer: Amphenol FCI; Plating: Tin; Number of Terminals/Pins: 4; Gender: Receptacle; Connector Type: USB,Receptacle; Number of Ports: 1; Pitch: 2mm; Supplier 1: Allied Electronics; Manufacturer Part Number: 73725-0110BLF; RoHS: Yes; Category: USB Connectors; Mount: Through Hole,Vertical; Contact Plating: GXT,Gold; Contact Material: Copper Alloy,Copper; Color: White; Housing Color: White; Housing Material: Thermoplastic; Min Operating Temperature: -40°C; Max Operating Temperature: 85°C; Termination: Solder; Packaging: Rail/Tube; Number of Contacts: 4; Orientation: Right Angle; Package Quantity: 30; Number of Positions: 4; USB Standard: USB 2.0; Features: Shielded; Series: -; Length: 5.76mm; Width: 13.8mm; Depth: 19.7mm; Flammability Rating: UL94 V-0; REACH SVHC: No SVHC; Lead Free: Lead Free; RoHS Compliant: Yes; ComponentLink1URL: https://datasheet.ciiva.com/1099/73725-1099184.pdf?src-supplier=Element14; ComponentLink1Description: https://datasheet.ciiva.com/1099/73725-1099184.pdf?src-supplier=Element14; ComponentLink2URL: https://datasheet.ciiva.com/4598/73725-222585-4598842.pdf?src-supplier=Mouser; ComponentLink2Description: https://datasheet.ciiva.com/4598/73725-222585-4598842.pdf?src-supplier=Mouser; ComponentLink3URL: https://datasheet.ciiva.com/1099/73725-1099185.pdf?src-supplier=Element14; ComponentLink3Description: https://datasheet.ciiva.com/1099/73725-1099185.pdf?src-supplier=Element14; ComponentLink4URL: https://datasheet.ciiva.com/3094/73725-3094435.pdf?src-supplier=Avnet; ComponentLink4Description: https://datasheet.ciiva.com/3094/73725-3094435.pdf?src-supplier=Avnet; ComponentLink5URL: https://datasheet.ciiva.com/851/73725-851209.pdf?src-supplier=Digi-Key; ComponentLink5Description: https://datasheet.ciiva.com/851/73725-851209.pdf?src-supplier=Digi-Key
footprint 73725-0110BLF
pins: 1 VBUS (power), 2 D- (io), 3 D+ (io), 4 GND (power), 5 SHIELD (power)